# Altium schematic symbol library relay.SchLib: 9 symbols
Pins are listed as number, name and electrical type; pins without a type are passive.

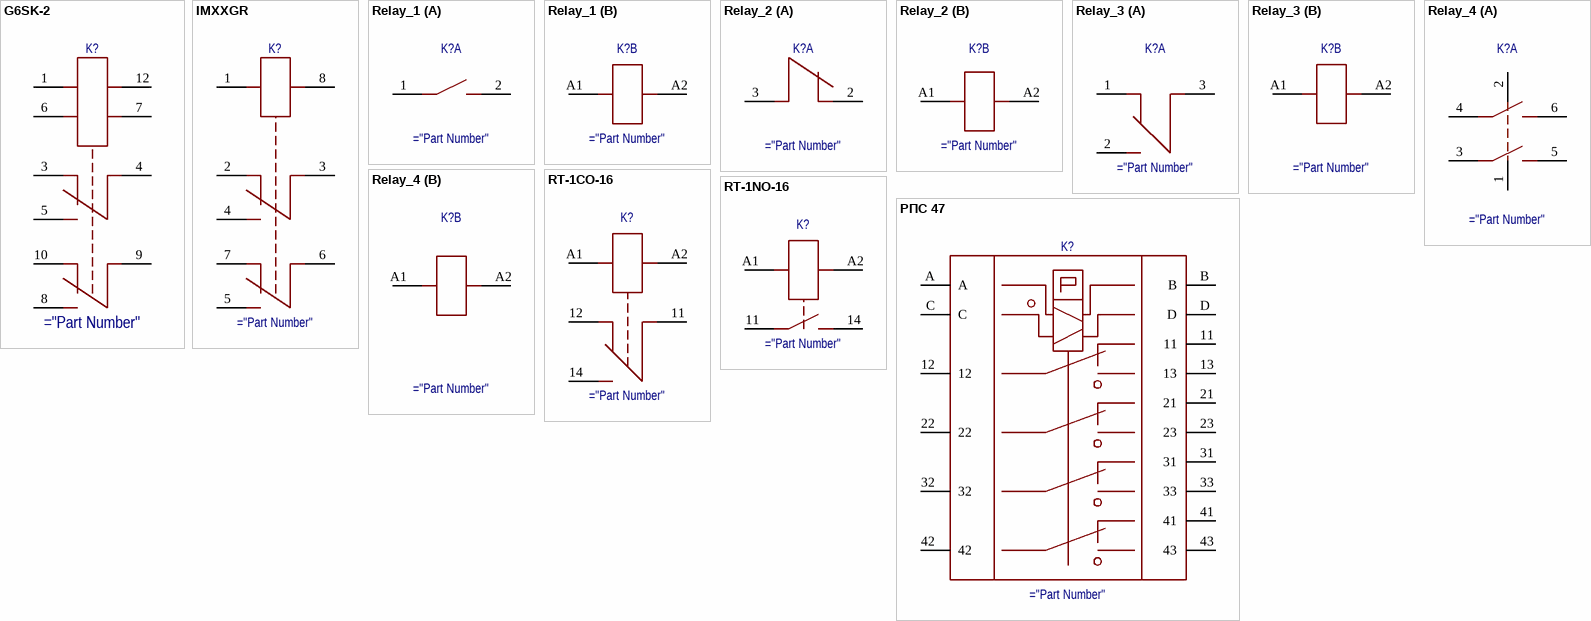
[diagram p0: symbols G6SK-2 to РПС 47]

## G6SK-2
designator K?
pins: 1 +, 3, 4, 5, 6 +, 7 -, 8, 9, 10, 12 -

## IMXXGR
designator K?
pins: 1 +, 2, 3, 4, 5, 6, 7, 8 -

## Relay_1
designator K?
Power Relay
part A pins: 1, 2
part B pins: A1, A2

## Relay_2
designator K?
Power Relay
part A pins: 2, 3
part B pins: A1, A2

## Relay_3
designator K?
Power Relay
part A pins: 1, 2, 3
part B pins: A1, A2

## Relay_4
designator K?
Power Relay
part A pins: 1, 2, 3, 4, 5, 6
part B pins: A1, A2

## RT-1CO-16
designator K?
Power Relay
pins: 11, 12, 14, A1, A2

## RT-1NO-16
designator K?
Power Relay
pins: 11, 14, A1, A2

## РПС 47
designator K?
Реле
pins: 11, 12, 13, 21, 22, 23, 31, 32, 33, 41, 42, 43, A, B, C, D